# Altium footprint library pke.PcbLib: 5 footprints
Each footprint in its own frame and in the unit in brackets; x right, y up, seen from the top. Pads: shape width x height; smd on the part's side, far side on the other; paste and mask are expansions set on the pad; w line width, h text height; cw(c..) or ccw(c..) is an arc to the next point about the centre after c.
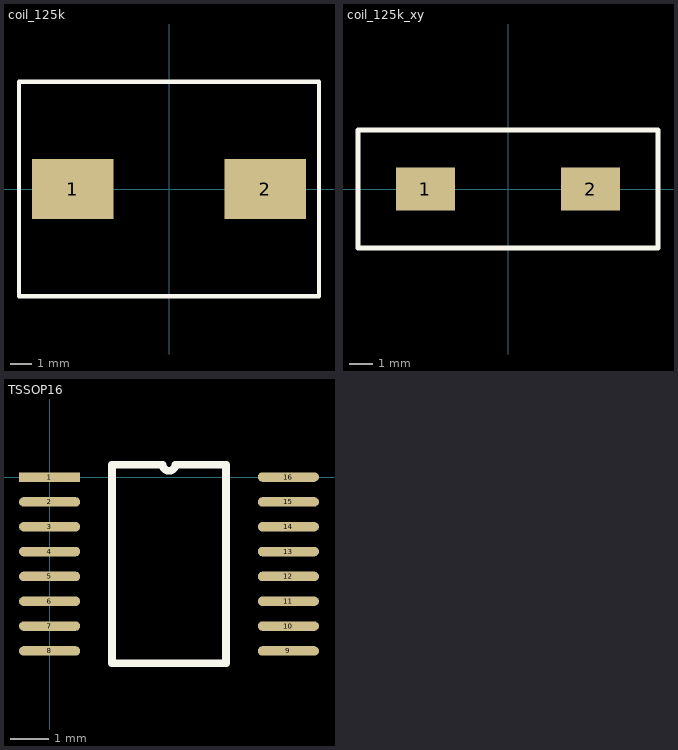
[diagram p0: the footprints below, top view; thin cyan lines are the x and y axes]

## coil_125k [mm]
pads (2):
  rect 3.8x2.8 smd: 1(-4.5,0) 2(4.5,0)
Top Overlay:
  lines w0.2: -7,-5 7,-5 7,5 -7,5 -7,-5

## coil_125k_xy [mm]
pads (2):
  rect 2.5x1.8 smd: 1(-3.5,0) 2(3.5,0)
Top Overlay:
  lines w0.2: -6.35,-2.5 6.35,-2.5 6.35,2.5 -6.35,2.5 -6.35,0 -6.35,-2.5

## PCBComponent_1 [mm]

## PCBComponent_1 - duplicate [mm]

## TSSOP16 [mm]
pads (16):
  rect 1.6x0.25 smd: 1(0,0)
  oval 1.6x0.25 smd: 2(0,-0.65) 3(0,-1.3) 4(0,-1.95) 5(0,-2.6) 6(0,-3.25) 7(0,-3.9) 8(0,-4.55) 9(6.25,-4.55) 10(6.25,-3.9) 11(6.25,-3.25) 12(6.25,-2.6) 13(6.25,-1.95) 14(6.25,-1.3) 15(6.25,-0.65) 16(6.25,0)
Top Overlay:
  lines w0.2: 1.635,-4.875 1.635,0.325 2.963,0.325 ccw(c3.125,0.325) 3.287,0.325 4.615,0.325 4.615,-4.875 1.635,-4.875